# Altium schematic symbol library EL-sense_Inverters.SchLib: 3 symbols
Pins are listed as number, name and electrical type; pins without a type are passive.

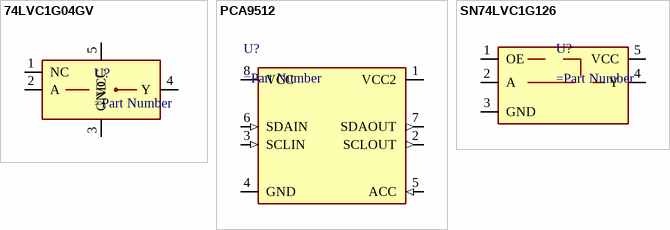
[diagram p0: symbols 74LVC1G04GV to SN74LVC1G126]

## 74LVC1G04GV
designator U?
pins: 1 NC, 2 A, 3 GND, 4 Y, 5 VCC

## PCA9512
designator U?
pins: 1 VCC2 (power), 2 SCLOUT (out), 3 SCLIN (in), 4 GND (power), 5 ACC (in), 6 SDAIN (in), 7 SDAOUT (out), 8 VCC (power)

## SN74LVC1G126
designator U?
pins: 1 OE, 2 A, 3 GND, 4 Y, 5 VCC